# Altium schematic symbol library lib.SchLib: 480 symbols (part 3 of 6)
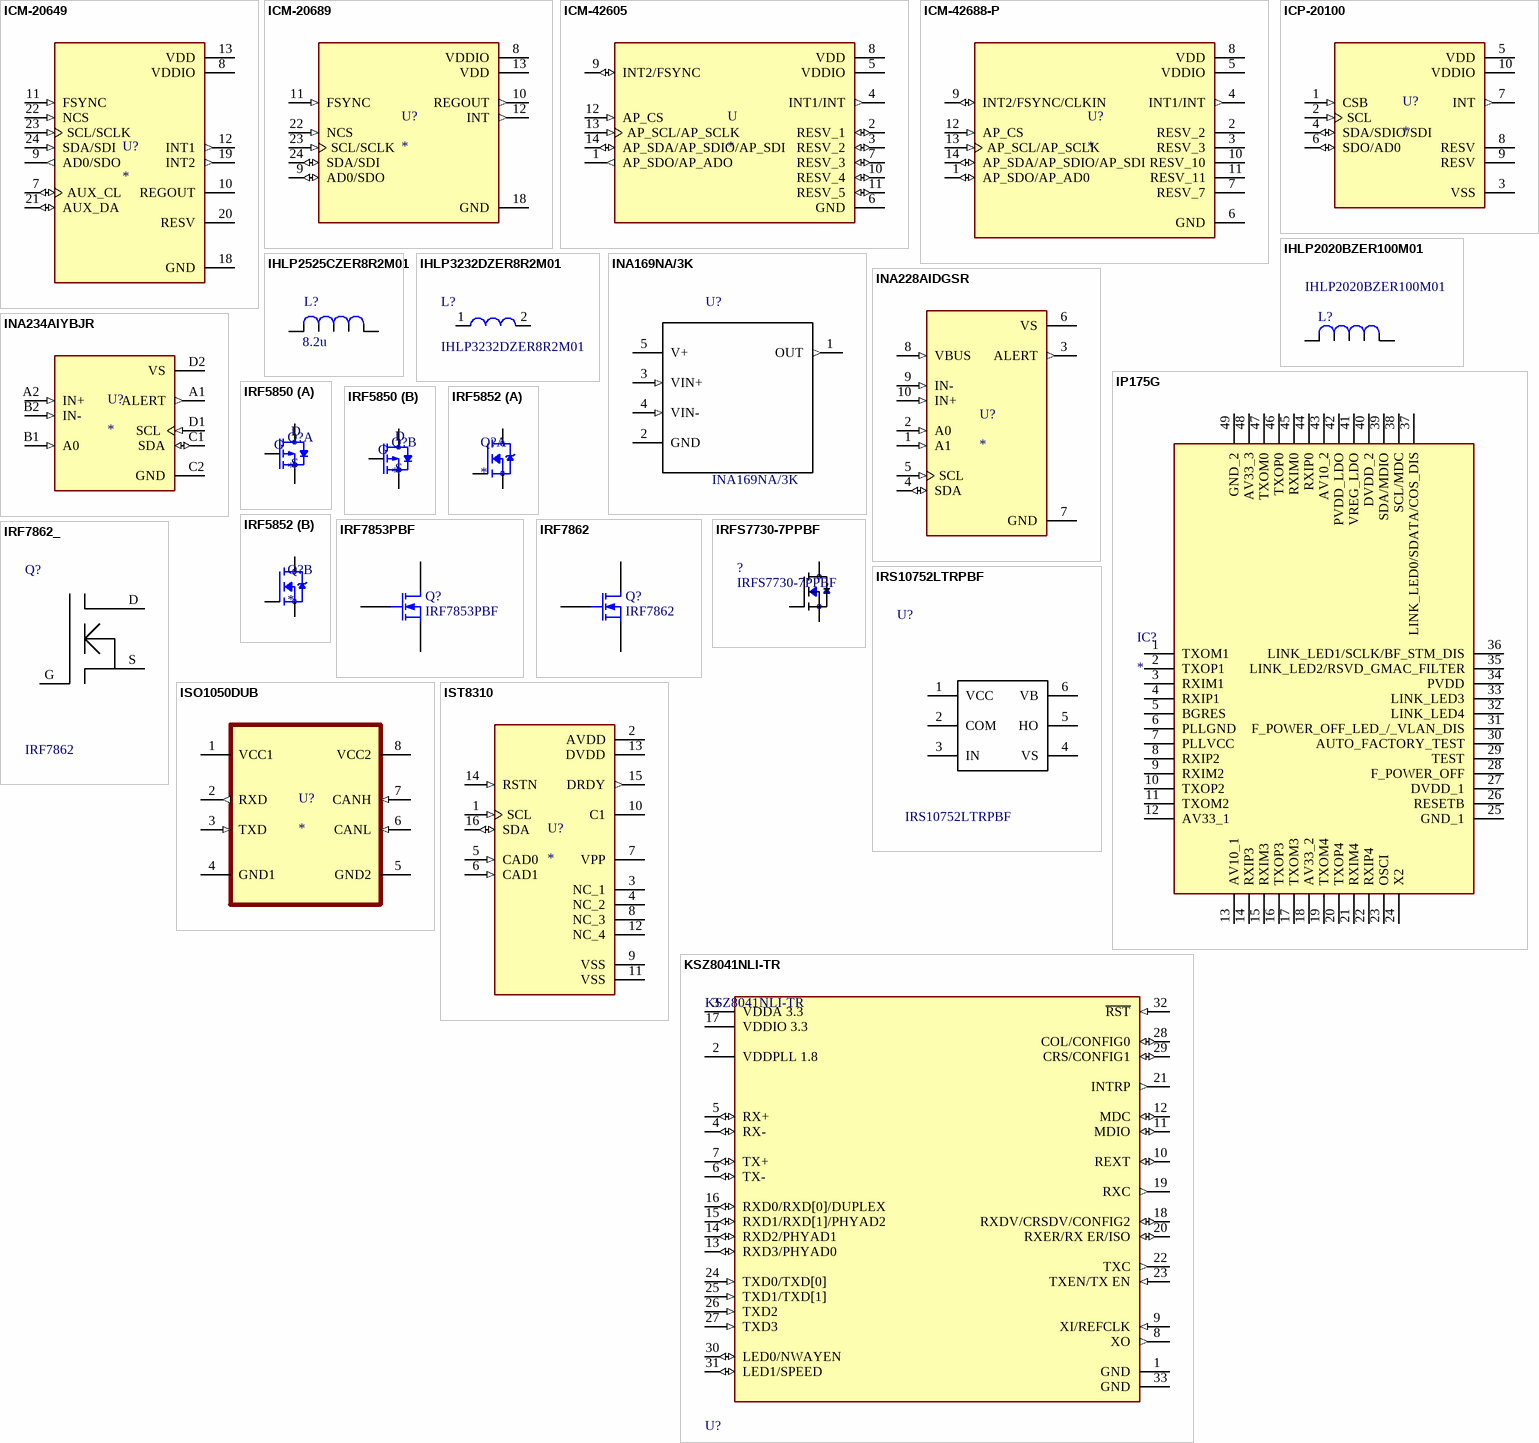
[diagram p22: symbols ICM-20649 to KSZ8041NLI-TR]

## ICM-20689
designator U?
Accelerometer, Gyroscope, Temperature, 6 Axis Sensor IÂ²C, SPI Output; MF: TDK InvenSense; MP: ICM-20689; Value: *; SnapEDA_Link: https://www.snapeda.com/parts/ICM-20689/TDK%20InvenSense/view-part/537724/?ref=snap; Package: QFN-24 InvenSense; HelpURL: https://static.chipdip.ru/lib/880/DOC011880561.pdf; ChipDip_Link: https://www.chipdip.ru/product1/8004216813
footprint QFN50P400X400X95-24N
pins: 8 VDDIO (power), 9 AD0/SDO (io), 10 REGOUT (out), 11 FSYNC (in), 12 INT (out), 13 VDD (power), 18 GND (power), 22 NCS (in), 23 SCL/SCLK (in), 24 SDA/SDI (io)

## ICM-42605
designator U
Accelerometer, Gyroscope, 6 Axis Sensor I²C, I3C, SPI Output; MP: ICM-42605; MF: TDK InvenSense; Value: *; Package: - TDK InvenSense; SnapEDA_Link: https://www.snapeda.com/parts/ICM-42605/TDK%20InvenSense/view-part/3226540/?ref=snap; HelpURL: https://static.chipdip.ru/lib/680/DOC011680342.pdf; ChipDip_Link: https://www.chipdip.ru/product/icm-42605-invensense
footprint PQFN50P300X250X97-14N
pins: 1 AP_SDO/AP_ADO (out), 2 RESV_1 (io), 3 RESV_2 (io), 4 INT1/INT (out), 5 VDDIO (power), 6 GND (power), 7 RESV_3 (io), 8 VDD (power), 9 INT2/FSYNC (io), 10 RESV_4 (io), 11 RESV_5 (io), 12 AP_CS (in), 13 AP_SCL/AP_SCLK (in), 14 AP_SDA/AP_SDIO/AP_SDI (io)

## ICM-42688-P
designator U?
Accelerometer, Gyroscope, 6 Axis Sensor Output; MP: ICM-42688-P; Package: None; Value: *; Availability: Unavailable; Price: None
footprint PQFN50P300X250X97-14N
pins: 1 AP_SDO/AP_AD0 (io), 2 RESV_2, 3 RESV_3, 4 INT1/INT (out), 5 VDDIO (power), 6 GND (power), 7 RESV_7, 8 VDD (power), 9 INT2/FSYNC/CLKIN (io), 10 RESV_10, 11 RESV_11, 12 AP_CS (in), 13 AP_SCL/AP_SCLK (in), 14 AP_SDA/AP_SDIO/AP_SDI (io)

## ICP-20100
designator U?
MF: TDK InvenSense; MP: ICP-20100; Package: None; Value: *; Availability: Not in stock; SnapEDA_Link: https://www.snapeda.com/parts/ICP-20100/TDK%20InvenSense/view-part/7331147/?ref=snap; Price: None; Check_prices: https://www.snapeda.com/parts/ICP-20100/TDK%20InvenSense/view-part/7331147/?ref=eda
footprint PQFN50P200X200X85-10N
pins: 1 CSB (in), 2 SCL (in), 3 VSS (power), 4 SDA/SDIO/SDI (io), 5 VDD (power), 6 SDO/AD0 (io), 7 INT (out), 8 RESV, 9 RESV, 10 VDDIO (power)

## IHLP2020BZER100M01
designator L?
10µH Shielded Molded Inductor 2.3A 199mOhm Max Nonstandard; MF: Vishay Dale; Type: SMD; SnapEDA_Link: https://www.snapeda.com/parts/IHLP2020BZER100M01/Vishay%20Dale/view-part/44808/?ref=snap; MP: IHLP2020BZER100M01; Value: *; Package: Nonstandard Vishay; HelpURL: http://www.vishay.com/docs/34253/ihlp-2020bz-01.pdf; ChipDip_Link: https://www.chipdip.ru/product/ihlp2020bzer100m11-inductor-ihlp-smd-2020-10
footprint IHLP
pins: 1, 2

## IHLP2525CZER8R2M01
designator L?  value 8.2u  (hidden comment: IHLP2525CZER8R2M01)
IHLP2525CZER8R2M01, 8.2uH 4A 20% Low Profile High Current SMT Inductor, Индуктивность; MF: Vishay Dale; Type: SMD; SnapEDA_Link: https://www.snapeda.com/parts/IHLP2525CZER100M01/Vishay%20Dale/view-part/?ref=snap; MP: IHLP2525CZER8R2M01; Package: Nonstandard Vishay
footprint *IND_IHLP_2525_CZ
pins: 1, 2

## IHLP3232DZER8R2M01
designator L?
Силовой Индуктор (SMD), 8.2 мкГн, 5.5 А, Экранированный, 10 А, Серия IHLP-3232DZ-01; Value: 8.2 uH; SnapEDA_Link: https://www.snapeda.com/parts/IHLP3232DZER3R3M51/Vishay%20Dale/view-part/1642474/?ref=snap; ChipDip_Link: https://www.chipdip.ru/product/ihlp3232dzer8r2m01; HelpURL: http://www.farnell.com/datasheets/2046006.pdf
footprint *INDM8681X400N
pins: 1, 2

## INA169NA/3K
designator U?
Current Monitor Regulator High-Side SOT-23-5; MF: Texas Instruments; Package: SOT-23-5 Texas Instruments; SnapEDA_Link: https://www.snapeda.com/parts/INA169NA/3K/Texas%20Instruments/view-part/449193/?ref=snap; MP: INA169NA/3K; Value: *; HelpURL: https://www.ti.com/lit/ds/symlink/ina169.pdf?ts=1652542931169&ref_url=https%253A%252F%252Fwww.google.com%252F
footprint *SOT95P280X145-5N
pins: 1 OUT (out), 2 GND, 3 VIN+ (in), 4 VIN- (in), 5 V+ (power)

## INA228AIDGSR
designator U?
85-V, 20-bit, ultra-precise, I2C output current/voltage/power/energy/charge monitor with alert; MF: Texas Instruments; MP: INA228AIDGSR; SnapEDA_Link: https://www.snapeda.com/parts/INA228AIDGSR/Texas+Instruments/view-part/?ref=snap; Package: VSSOP-10 Texas Instruments; Value: *; Check_prices: https://www.snapeda.com/parts/INA228AIDGSR/Texas+Instruments/view-part/?ref=eda; HelpURL: https://www.ti.com/lit/ds/symlink/ina228.pdf
footprint SOP50P490X110-10N
pins: 1 A1 (in), 2 A0 (in), 3 ALERT (out), 4 SDA (io), 5 SCL (in), 6 VS (power), 7 GND (power), 8 VBUS (in), 9 IN- (in), 10 IN+ (in)

## INA234AIYBJR
designator U?
28-V, 12-bit, IÂ²C output current/voltage/power monitor with alert in WCSP; MF: Texas Instruments; MP: INA234AIYBJR; SnapEDA_Link: https://www.snapeda.com/parts/INA234AIYBJR/Texas+Instruments/view-part/?ref=snap; Package: Package; Value: *; Check_prices: https://www.snapeda.com/parts/INA234AIYBJR/Texas+Instruments/view-part/?ref=eda; HelpURL: https://www.ti.com/lit/ds/symlink/ina234.pdf?ts=1771787119378
footprint IC_INA234AIYBJR
pins: A1 ALERT (out), A2 IN+ (in), B1 A0 (in), B2 IN- (in), C1 SDA (io), C2 GND (power), D1 SCL (in), D2 VS (power)

## IP175G
designator IC?
Integrated Circuit; Manufacturer_Name: IC+; Manufacturer_Part_Number: IP175G; Height: 0.9mm
footprint QFN40P600X600X90-49N-D
pins: 1 TXOM1, 2 TXOP1, 3 RXIM1, 4 RXIP1, 5 BGRES, 6 PLLGND, 7 PLLVCC, 8 RXIP2, 9 RXIM2, 10 TXOP2, 11 TXOM2, 12 AV33_1, 13 AV10_1, 14 RXIP3, 15 RXIM3, 16 TXOP3, 17 TXOM3, 18 AV33_2, 19 TXOM4, 20 TXOP4, 21 RXIM4, 22 RXIP4, 23 OSCI, 24 X2, 25 GND_1, 26 RESETB, 27 DVDD_1, 28 F_POWER_OFF, 29 TEST, 30 AUTO_FACTORY_TEST, 31 F_POWER_OFF_LED_/_VLAN_DIS, 32 LINK_LED4, 33 LINK_LED3, 34 PVDD, 35 LINK_LED2/RSVD_GMAC_FILTER, 36 LINK_LED1/SCLK/BF_STM_DIS, 37 LINK_LED0/SDATA/COS_DIS, 38 SCL/MDC, 39 SDA/MDIO, 40 DVDD_2, 41 VREG_LDO, 42 PVDD_LDO, 43 AV10_2, 44 RXIP0, 45 RXIM0, 46 TXOP0, 47 TXOM0, 48 AV33_3, 49 GND_2

## IRF5850
designator Q?
Mosfet Array 2 P-Channel (Dual) 20V 2.2A 960mW Surface Mount 6-TSOP; MF: Infineon; MP: IRF5850; Value: *; Check_prices: https://www.snapeda.com/parts/IRF5850/Infineon+Technologies/view-part/?ref=eda; Availability: In Stock; Package: TSOP-6 International Rectifier; SnapEDA_Link: https://www.snapeda.com/parts/IRF5850/Infineon+Technologies/view-part/?ref=snap; Purchase-URL: https://pricing.snapeda.com/search/part/IRF5850/?ref=eda; Price: None
footprint SOT23-6
part A pins: 1 G, 5 S, 6 D
part B pins: 2 S, 3 G, 4 D

## IRF5852
designator Q?
Mosfet Array 2 N-Channel _Dual_ 20V 2.7A 960mW Surface Mount 6-TSOP; MP: IRF5852; MF: Infineon; Value: *; SnapEDA_Link: https://www.snapeda.com/parts/IRF5852/Infineon%20Technologies/view-part/593138/?ref=snap; Package: TSOP-6 International Rectifier; ChipDip_Link: https://www.chipdip.ru/product/irf5852trpbf; HelpURL: https://static.chipdip.ru/lib/300/DOC000300076.pdf
footprint SOT23-6
part A pins: 1 G, 5 S, 6 D
part B pins: 2 S, 3 G, 4 D

## IRF7853PBF
designator Q?
IRF7853PBF, Транзистор, N-канал 100В 8.3А [SO-8]; ChipDip_Link: https://www.chipdip.ru/product/irf7853pbf; HelpURL: https://static.chipdip.ru/lib/300/DOC000300486.pdf
footprint *SO-08
simulation model NMOS (MOSFET-N)
pins: D, G, S

## IRF7862
designator Q?
N-Channel MOSFET
footprint *SO-08
simulation model NMOS (MOSFET-N)
pins: D, G, S

## IRF7862_
designator Q?, comment IRF7862
MF: Infineon Technologies; SnapEDA_Link: https://www.snapeda.com/parts/IRF7862/Infineon%20Technologies/view-part/?ref=snap; MP: IRF7862; Package: SO-8 Infineon Technologies; Value: *
footprint *SO-08
pins: D D1 (power), G (power), S S1 (power)

## IRFS7730-7PPBF
designator ?
IRFS7730-7PPBF, Транзистор, StrongIRFET, N-канал 75В 240А 2мОм [D2PAK-7]; SnapEDA_Link: https://www.snapeda.com/parts/BSS138/MICROSS/On%20Semiconductor/view-part/2773844/?ref=snap; MP: IRFS7730-7PPBF; MF: IRFS7730-7PPBF; Package: d2pak-7; Value: *; HelpURL: https://www.chipdip.ru/product/irfs7730-7ppbf
footprint *DPAK127P1524X483-8N
pins: D, G, S

## IRS10752LTRPBF
designator U?
Floating gate driver designed for bootstrap operation | Fully operational to +100 V | Fully operational to +600 V (IRS25752L) Fully operational to +200 V (IRS20752L) option available | Excellent dv/dt immunity | Excellent negative VS transient immunity | Wide VCC range | U VLO on low-side and high-side | Schmitt-trigger input with internal pull-down | Output in phase with input; MF: infineon; Package: SOT-23-6; SnapEDA_Link: https://www.snapeda.com/parts/IRS10752LTRPBF/Infineon%20Technologies/view-part/?ref=search&t=IRS10752; MP: IRS10752LTRPBF; Value: *; HelpURL: https://static.chipdip.ru/lib/142/DOC001142060.pdf; ChipDip_Link: https://www.chipdip.ru/product/irs10752ltrpbf
footprint *SOT95P275X110-6N
pins: 1 VCC (power), 2 COM, 3 IN (power), 4 VS (power), 5 HO, 6 VB (power)

## ISO1050DUB
designator U?
Isolated 5-V CAN transceiver 8-SOP -55 to 105; MP: ISO1050DUB; MF: Texas Instruments; Package: SOP-8 Texas Instruments; SnapEDA_Link: https://www.snapeda.com/parts/ISO1050DUB/Texas%20Instruments/view-part/281729/?ref=snap; Value: *; ChipDip_Link: https://www.chipdip.ru/product/iso1050dub; HelpURL: https://static.chipdip.ru/lib/143/DOC004143969.pdf
footprint SOP254P1040X485-8N
pins: 1 VCC1 (power), 2 RXD (out), 3 TXD (in), 4 GND1 (power), 5 GND2 (power), 6 CANL (in), 7 CANH (in), 8 VCC2 (power)

## IST8310
designator U?
3-axis digital magnetometer with 16-pin LGA package; MF: Isentek; MP: IST8310; SnapEDA_Link: https://www.snapeda.com/parts/IST8310/Isentek/view-part/3595432/?ref=snap; Availability: Unavailable; Price: None; Value: *; Check_prices: https://www.snapeda.com/parts/IST8310/Isentek/view-part/3595432/?ref=eda; Package: Package
footprint PQFN50P300X300X110-16N
pins: 1 SCL (in), 2 AVDD (power), 3 NC_1, 4 NC_2, 5 CAD0 (in), 6 CAD1 (in), 7 VPP, 8 NC_3, 9 VSS (power), 10 C1, 11 VSS (power), 12 NC_4, 13 DVDD (power), 14 RSTN (in), 15 DRDY (out), 16 SDA (io)

## KSZ8041NLI-TR
designator U?
IC TRANSCEIVER FULL 1/1 32MLF; Simplex/Duplex: Full Duplex; Data Rate: 100Mbps; Supply Voltage-Nom: 3.465V; Operating Supply Voltage: 3.3V; Number of Channels: 1; Max Supply Current: 58.3mA; Min Supply Voltage: 3.135V; Supply Current: 53mA; Series: -; Min Operating Temperature: -40°C; Width: 5mm; Height: 0.85mm; Mount: Surface Mount; Case/Package: QFN; REACH SVHC: No SVHC; Length: 5mm; Radiation Hardening: No; Number of Functions: 1; Number of Transceivers: 1; Packaging: Tape and Reel; Max Supply Voltage: 3.465V; Package Quantity: 1000; RoHS Compliant: Yes; Max Operating Temperature: 85°C; Nominal Supply Current: 53mA; Number of Pins: 32
footprint FP-QFN55-32LD-PL-1-IPC_A
pins: 1 GND (power), 2 VDDPLL 1.8 (power), 3 VDDA 3.3 (power), 4 RX- (io), 5 RX+ (io), 6 TX- (io), 7 TX+ (io), 8 XO (out), 9 XI/REFCLK (in), 10 REXT (io), 11 MDIO (io), 12 MDC (io), 13 RXD3/PHYAD0 (io), 14 RXD2/PHYAD1 (io), 15 RXD1/RXD[1]/PHYAD2 (io), 16 RXD0/RXD[0]/DUPLEX (io), 17 VDDIO 3.3 (power), 18 RXDV/CRSDV/CONFIG2 (io), 19 RXC (out), 20 RXER/RX ER/ISO (io), 21 INTRP (out), 22 TXC (out), 23 TXEN/TX EN (in), 24 TXD0/TXD[0] (in), 25 TXD1/TXD[1] (in), 26 TXD2 (in), 27 TXD3 (in), 28 COL/CONFIG0 (io), 29 CRS/CONFIG1 (io), 30 LED0/NWAYEN (io), 31 LED1/SPEED (io), 32 ~{RST} (in), 33 GND (power)

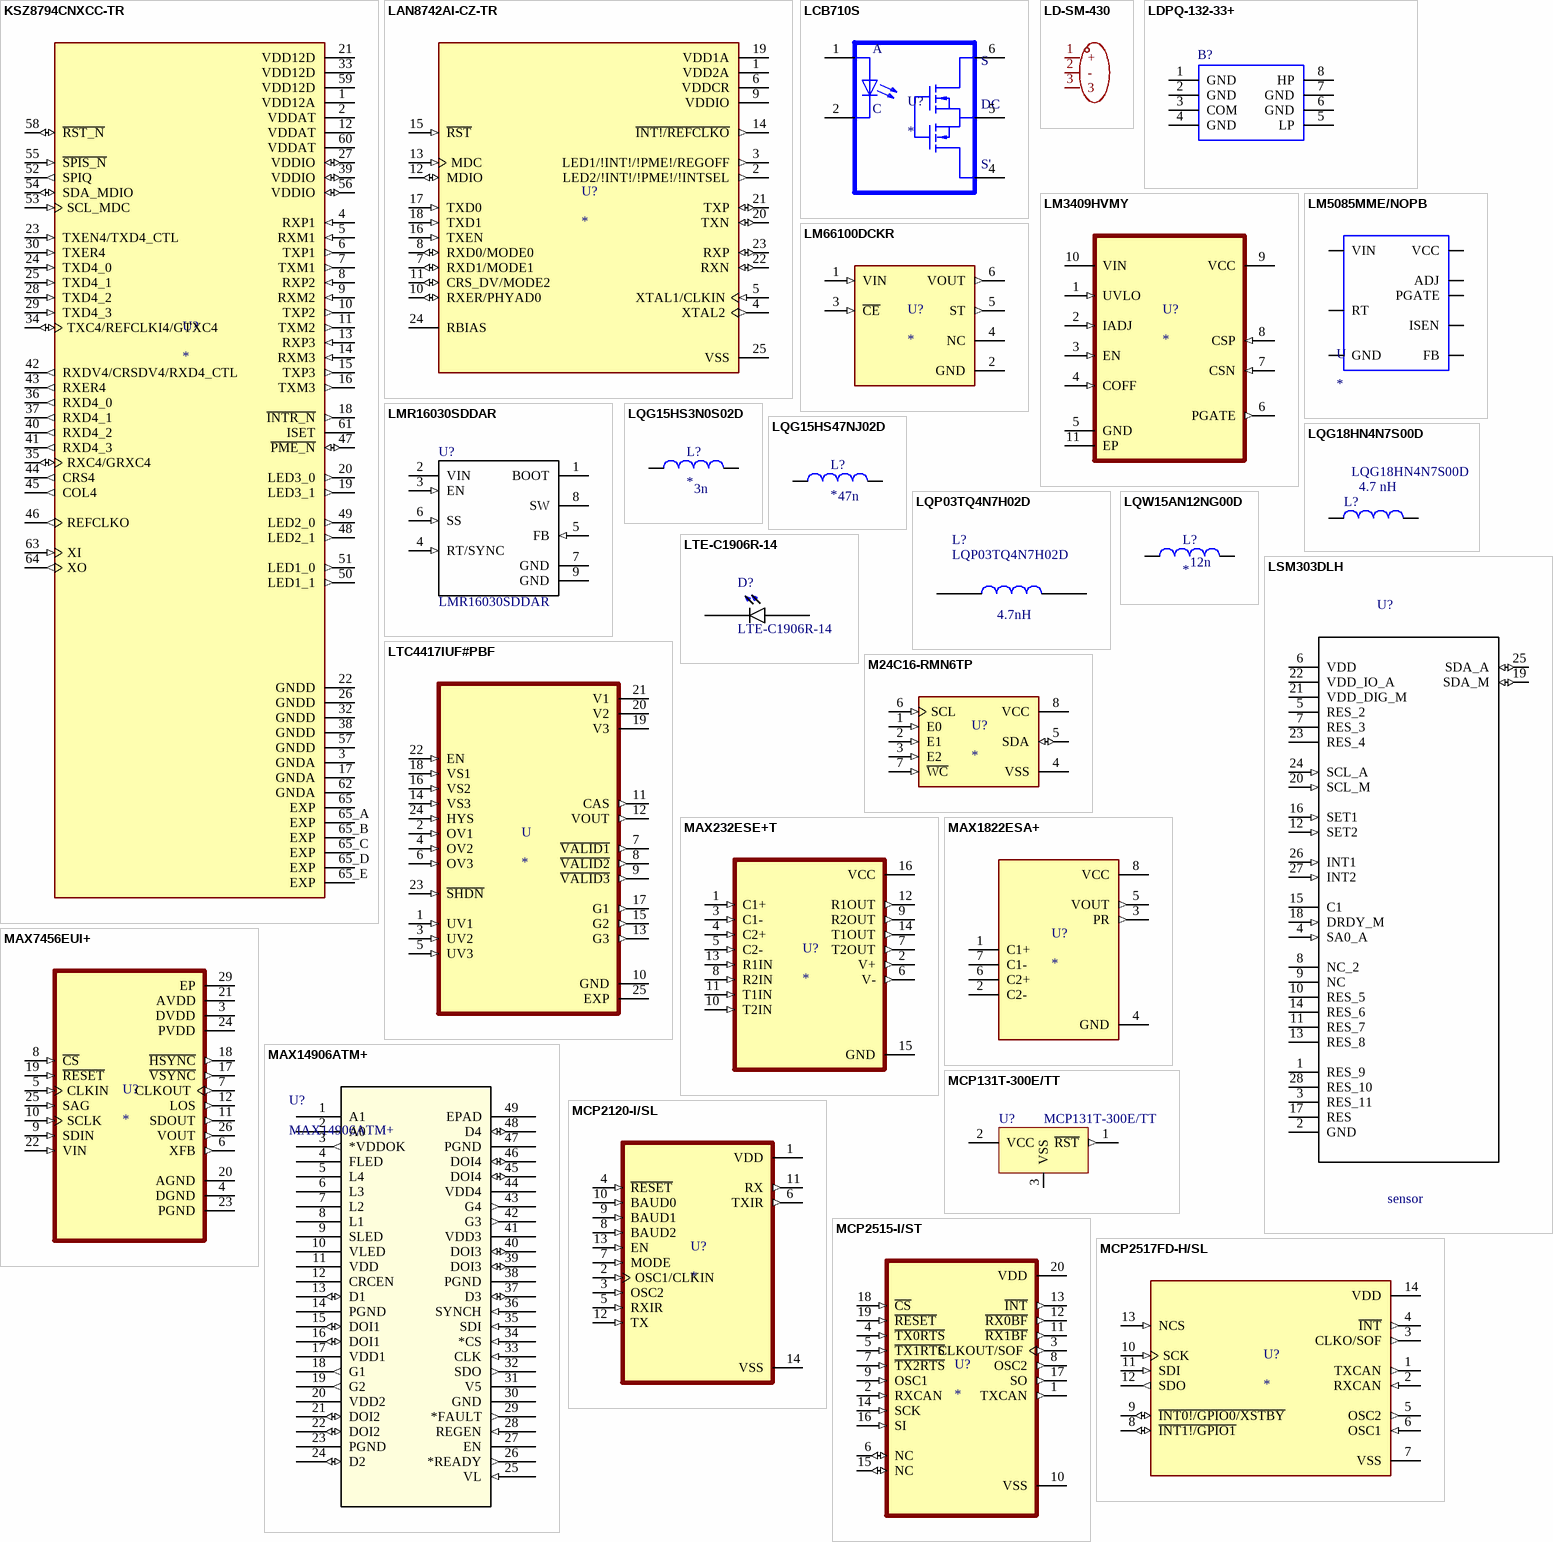
[diagram p8: symbols KSZ8794CNXCC-TR to MCP2517FD-H/SL]

## KSZ8794CNXCC-TR
designator U?
Ethernet Controller 10/100 Base-T/TX PHY MII, RMII Interface 64-QFN _8x8_; MF: Microchip; MP: KSZ8794CNXCC-TR; Package: QFN-64 Microchip; Digi-Key_Purchase_URL: https://www.digikey.com/product-detail/en/microchip-technology/KSZ8794CNXCC-TR/KSZ8794CNXCC-CT-ND/9923662?utm_source=snapeda&utm_medium=aggregator&utm_campaign=symbol; Value: *; SnapEDA_Link: https://www.snapeda.com/parts/KSZ8794CNXCC-TR/Microchip/view-part/901120/?ref=snap; Digi-Key_Part_Number: KSZ8794CNXCC-CT-ND
footprint QFN40P800X800X90-65N
pins: 1 VDD12A (power), 2 VDDAT (power), 3 GNDA (power), 4 RXP1 (in), 5 RXM1 (in), 6 TXP1 (out), 7 TXM1 (out), 8 RXP2 (in), 9 RXM2 (in), 10 TXP2 (out), 11 TXM2 (out), 12 VDDAT (power), 13 RXP3 (in), 14 RXM3 (in), 15 TXP3 (out), 16 TXM3 (out), 17 GNDA (power), 18 ~{INTR_N} (out), 19 LED3_1 (out), 20 LED3_0 (out), 21 VDD12D (power), 22 GNDD (power), 23 TXEN4/TXD4_CTL (in), 24 TXD4_0 (in), 25 TXD4_1 (in), 26 GNDD (power), 27 VDDIO (io), 28 TXD4_2 (in), 29 TXD4_3 (in), 30 TXER4 (in), 32 GNDD (power), 33 VDD12D (power), 34 TXC4/REFCLKI4/GTXC4 (io), 35 RXC4/GRXC4 (io), 36 RXD4_0 (out), 37 RXD4_1 (out), 38 GNDD (power), 39 VDDIO (io), 40 RXD4_2 (out), 41 RXD4_3 (out), 42 RXDV4/CRSDV4/RXD4_CTL (out), 43 RXER4 (out), 44 CRS4 (out), 45 COL4 (out), 46 REFCLKO (out), 47 ~{PME_N} (io), 48 LED2_1 (out), 49 LED2_0 (out), 50 LED1_1 (out), 51 LED1_0 (out), 52 SPIQ (out), 53 SCL_MDC (in), 54 SDA_MDIO (io), 55 ~{SPIS_N} (in), 56 VDDIO (io), 57 GNDD (power), 58 ~{RST_N} (io), 59 VDD12D (power), 60 VDDAT (power), 61 ISET, 62 GNDA (power), 63 XI (in), 64 XO (out), 65 EXP (power), 65_A EXP (power), 65_B EXP (power), 65_C EXP (power), 65_D EXP (power), 65_E EXP (power)

## LAN8742AI-CZ-TR
designator U?
1/1 Transceiver Full Ethernet 24-SQFN (4x4); MF: Microchip; MP: LAN8742AI-CZ-TR; SnapEDA_Link: https://www.snapeda.com/parts/LAN8742AI-CZ-TR/Microchip/view-part/591729/?ref=snap; Price: None; Availability: In Stock; Value: *; Check_prices: https://www.snapeda.com/parts/LAN8742AI-CZ-TR/Microchip/view-part/591729/?ref=eda; Package: VFQFN-24 Microchip
footprint QFN50P400X400X100-25N
pins: 1 VDD2A (power), 2 LED2/!INT!/!PME!/!INTSEL (out), 3 LED1/!INT!/!PME!/REGOFF (out), 4 XTAL2 (out), 5 XTAL1/CLKIN (in), 6 VDDCR (power), 7 RXD1/MODE1 (io), 8 RXD0/MODE0 (io), 9 VDDIO (power), 10 RXER/PHYAD0 (io), 11 CRS_DV/MODE2 (io), 12 MDIO (io), 13 MDC (in), 14 ~{INT!/REFCLKO} (out), 15 ~{RST} (in), 16 TXEN (in), 17 TXD0 (in), 18 TXD1 (in), 19 VDD1A (power), 20 TXN (io), 21 TXP (io), 22 RXN (io), 23 RXP (io), 24 RBIAS, 25 VSS (power)

## LCB710S
designator U?
Solid State, 60V, 1A Single-Pole, Normally Closed Relay; MP: LCB710S; MF: Littelfuse/IXYS; Digi-Key_Part_Number: VO14642AABCT-ND; Value: *; SnapEDA_Link: https://www.snapeda.com/parts/VO14642AABTR/Vishay%20Semiconductor%20Opto%20Division/view-part/226427/?ref=snap; Digi-Key_Purchase_URL: https://www.digikey.com/product-detail/en/vishay-semiconductor-opto-division/VO14642AABTR/VO14642AABCT-ND/4743823?utm_source=snapeda&utm_medium=aggregator&utm_campaign=symbol; Package: SMD-6 Vishay; HelpURL: https://www.lcsc.com/datasheet/C2152209.pdf
footprint SOIC254P1005X390-6N
pins: 1 A, 2 C, 4 S', 5 DC, 6 S

## LD-SM-430
designator M??  (value not drawn)
MF: LEADER(立得); Add into BOM: yes; Voltage Rating: 2.7V; Current Rating: 85mA; Rated Speed: 14000±2500rpm; Sense Of Rotation: CW；CCW; MP: LD-SM-430; Device: LD-SM-430; Manufacturer Part: LD-SM-430; Supplier Footprint: -; JLCPCB Part Class: Extended Part; Datasheet: https://item.szlcsc.com/datasheet/LD-SM-430/43080312.html; Supplier: LCSC; Convert to PCB: yes; Type: Flat Vibration Motor; Operating Temperature: -20℃~+60℃; Mounting Type: SMD; Diameter (φD): -; Length: 4mm; Width: 3mm; Height: 11mm; HelpURL: https://www.lcsc.com/product-detail/C41348533.html?s_z=n_LD-SM-430
footprint SMD_LD-SM-430-1
pins: 1 +, 2 -, 3

## LDPQ-132-33+
designator B?
Signal Conditioning LTCC Diplexer, DC-1280/1550-3000 MHz, 50O; MF: Mini-Circuits; Geometry.Height: 0.99mm; Mouser Part Number: 139-LDPQ-132-33+; Mouser Price/Stock: https://www.mouser.co.uk/ProductDetail/Mini-Circuits/LDPQ-132-33%2b?qs=sPbYRqrBIVklzPkP44UYCQ%3D%3D; MP: LDPQ-132-33+; Datasheet Link: https://www.minicircuits.com/pdfs/LDPQ-132-33+.pdf; HelpURL: https://www.minicircuits.com/pdfs/LDPQ-132-33+.pdf
footprint LDPQ13233
pins: 1 GND, 2 GND, 3 COM, 4 GND, 5 LP, 6 GND, 7 GND, 8 HP

## LM3409HVMY
designator U?
75-V PFET buck controller for high power LED drivers; MF: Texas Instruments; MP: LM3409HVMY/NOPB; SnapEDA_Link: https://www.snapeda.com/parts/LM3409HVMY/NOPB/Texas+Instruments/view-part/?ref=snap; Package: HVSSOP-10 Texas Instruments; Value: *; Check_prices: https://www.snapeda.com/parts/LM3409HVMY/NOPB/Texas+Instruments/view-part/?ref=eda; HelpURL: https://www.lcsc.com/datasheet/C11157.pdf
footprint SOP50P490X109-11N
pins: 1 UVLO (in), 2 IADJ (in), 3 EN (in), 4 COFF (in), 5 GND, 6 PGATE (out), 7 CSN (in), 8 CSP (in), 9 VCC (power), 10 VIN (power), 11 EP

## LM5085MME/NOPB
designator U
4.5-75V Wide Vin, Constant On-Time Non-Synchronous PFET Buck Controller 8-VSSOP -40 to 125; MF: Texas Instruments; MP: LM5085MME/NOPB; Package: MSOP-8 Texas Instruments; Value: *; SnapEDA_Link: https://www.snapeda.com/parts/LM5085MME/NOPB/Texas%20Instruments/view-part/29752/?ref=snap
footprint VSSOP8
pins: P$1 ADJ (io), P$2 RT (io), P$3 FB (io), P$4 GND (io), P$5 ISEN (io), P$6 PGATE (io), P$7 VCC (io), P$8 VIN (io)

## LM66100DCKR
designator U?
1.5-V to 5.5-V, 1.5-A, 0.5-ÂµA IQ ideal diode with integrated FET; MF: Texas Instruments; MP: LM66100DCKR; SnapEDA_Link: https://www.snapeda.com/parts/LM66100DCKR/Texas+Instruments/view-part/?ref=snap; Package: SOT-SC70-6 Texas Instruments; Value: *; Check_prices: https://www.snapeda.com/parts/LM66100DCKR/Texas+Instruments/view-part/?ref=eda
footprint SOT65P210X110-6N
pins: 1 VIN (in), 2 GND (power), 3 ~{CE} (in), 4 NC, 5 ST (out), 6 VOUT (out)

## LMR16030SDDAR
designator U?
LMR16030SDDAR, Conv DC-DC 4.3V to 60V Step Down Single-Out 1V to 50V 3A Automotive 8-Pin HSOP EP T/R; MF: Texas Instruments; SnapEDA_Link: https://www.snapeda.com/parts/TPS54560DDA/Texas%20Instruments/view-part/?ref=snap; MP: LMR16030SDDAR; Package: PowerSOIC-8 Texas Instruments; Value: *; Type: SMD; ChipDip_Link: https://www.chipdip.ru/product1/8003448566; HelpURL: https://www.ti.com/lit/ds/symlink/lmr16030.pdf
footprint *SOIC127P600X170-9N
pins: 1 BOOT (power), 2 VIN (power), 3 EN (in), 4 RT/SYNC (in), 5 FB (in), 6 SS (in), 7 GND (power), 8 SW (power), 9 GND (power)

## LQG15HS3N0S02D
designator L?  value 3n
Inductor with Inductance: 3nH Tol. +/-0.3nH, Package: 0402 _1005_; MP: LQG15HS3N0S02D; MF: Murata; SnapEDA_Link: https://www.snapeda.com/parts/LQG15HS3N0S02D/Murata%20Electronics%20North%20America/view-part/1501807/?ref=snap; Price: None; Package: 1005 Murata; Availability: Unavailable
footprint INDC1005X55N
pins: 1, 2

## LQG15HS47NJ02D
designator L?  value 47n
Inductor RF Chip Unshielded Multi-Layer 47nH 5% 100MHz 8Q-Factor Ceramic 200mA 720mOhm DCR 0402 T/R; MP: LQG15HS47NJ02D; Package: None; Price: None; Availability: Unavailable
footprint INDC1005X55N
pins: 1, 2

## LQG18HN4N7S00D
designator L?  value 4.7 nH
Ind RF Chip Multi-Layer 4.7nH 0.3nH 100MHz 12Q-Factor Air 450mA 0603 Paper T/R; MF: {'manufacturer': u'Murata'}; Type: SMD; Package: 0603; MP: LQG18HN4N7S00D
footprint INDC1608X95N
pins: 1, 2

## LQP03TQ4N7H02D
designator L?  value 4.7nH
0402; SnapEDA_Link: https://www.snapeda.com/parts/LQP03TQ4N7H02D/Murata/view-part/1507840/?ref=snap; ChipDip_Link: https://www.chipdip.ru/product/lqp03tq4n7h02d; HelpURL: http://www.farnell.com/datasheets/2616640.pdf
footprint *IND_LQP03TQ4N7H02D
pins: 1, 2

## LQW15AN12NG00D
designator L?  value 12n
Inductor with Inductance: 12nH Tol. +/-2%, Package: 0402 (1005); MF: Murata; MP: LQW15AN12NG00D; Price: None; Package: 1006 Murata; SnapEDA_Link: https://www.snapeda.com/parts/LQW15AN12NG00D/Murata%20Electronics%20North%20America/view-part/1499497/?ref=snap; Mouser-Purchase-URL: https://snapeda.com/shop?store=Mouser&id=1499497; Availability: Unavailable; DigiKey-Purchase-URL: https://snapeda.com/shop?store=DigiKey&id=1499497
footprint INDC1006X60N
pins: 1, 2

## LSM303DLH
designator U?, comment sensor
3-axis accelerometer and 3-axis magnetometer; SnapEDA_Link: https://www.snapeda.com/parts/LSM303DLH/STMicroelectronics/view-part/499714/?ref=snap; Value: *; HelpURL: https://www.sparkfun.com/datasheets/Sensors/Magneto/LSM303%20Datasheet.pdf; ChipDip_Link: https://www.chipdip.ru/product0/8565509100
footprint *LGA28R55P7X7_500X500X100
pins: 1 RES_9, 2 GND, 3 RES_11, 4 SA0_A (in), 5 RES_2 (power), 6 VDD (power), 7 RES_3 (power), 8 NC_2, 9 NC, 10 RES_5, 11 RES_7, 12 SET2 (in), 13 RES_8, 14 RES_6, 15 C1, 16 SET1 (in), 17 RES, 18 DRDY_M (in), 19 SDA_M (io), 20 SCL_M (in), 21 VDD_DIG_M (power), 22 VDD_IO_A (power), 23 RES_4 (power), 24 SCL_A (in), 25 SDA_A (io), 26 INT1 (in), 27 INT2 (in), 28 RES_10

## LTC4417IUF#PBF
designator U
Controller 2.5V to 36V 24-Pin QFN EP Tube; MF: Analog Devices; MP: LTC4417IUF#PBF; Package: QFN -24 Analog Devices; Price: None; Value: *; SnapEDA_Link: https://www.snapeda.com/parts/LTC4417IUF%23PBF/Analog%20Devices/view-part/4333221/?ref=snap; Availability: Unavailable
footprint QFN50P400X400X80-25N
pins: 1 UV1 (in), 2 OV1 (in), 3 UV2 (in), 4 OV2 (in), 5 UV3 (in), 6 OV3 (in), 7 ~{VALID1} (out), 8 ~{VALID2} (out), 9 ~{VALID3} (out), 10 GND (power), 11 CAS (out), 12 VOUT (out), 13 G3 (out), 14 VS3 (in), 15 G2 (out), 16 VS2 (in), 17 G1 (out), 18 VS1 (in), 19 V3 (power), 20 V2 (power), 21 V1 (power), 22 EN (in), 23 ~{SHDN} (in), 24 HYS (in), 25 EXP (power)

## LTE-C1906R-14
designator D?
LED IrLED Chip LED 2-Pin SMD T/R; MF: Lite-On Inc.; Package: 0603 Lite-On; MP: LTE-C1906R-14; SnapEDA_Link: https://www.snapeda.com/parts/LTE-C1906R-14/Lite-On%20Inc./view-part/?ref=snap; Value: *
footprint *LEDM1608X80_LTE-C1906R-14(Primary)
pins: A, C

## M24C16-RMN6TP
designator U?
EEPROM Memory IC 16Kb (2K x 8) IÂ²C 400 kHz 900 ns 8-SOIC; MF: STMicroelectronics; MP: M24C16-RMN6TP; SnapEDA_Link: https://www.snapeda.com/parts/M24C16-RMN6TP/STMicroelectronics/view-part/?ref=snap; Package: SO-8 STMicroelectronics; Value: *; Check_prices: https://www.snapeda.com/parts/M24C16-RMN6TP/STMicroelectronics/view-part/?ref=eda
footprint SOIC127P600X175-8N
pins: 1 E0 (in), 2 E1 (in), 3 E2 (in), 4 VSS (power), 5 SDA (io), 6 SCL (in), 7 ~{WC} (in), 8 VCC (power)

## MAX232ESE+T
designator U?
Dual Transmitter/Receiver RS-232 16-Pin SOIC N T/R; MF: Maxim Integrated Products; MP: MAX232ESE+T; SnapEDA_Link: https://www.snapeda.com/parts/MAX232ESE+T/Maxim+Integrated/view-part/?ref=snap; Package: None; Value: *; Check_prices: https://www.snapeda.com/parts/MAX232ESE+T/Maxim+Integrated/view-part/?ref=eda; HelpURL: https://www.lcsc.com/datasheet/lcsc_datasheet_2410121841_Analog-Devices-Inc--Maxim-Integrated-MAX232ESE-T_C26860.pdf
footprint SOIC127P600X175-16N
pins: 1 C1+ (in), 2 V+ (out), 3 C1- (in), 4 C2+ (in), 5 C2- (in), 6 V- (out), 7 T2OUT (out), 8 R2IN (in), 9 R2OUT (out), 10 T2IN (in), 11 T1IN (in), 12 R1OUT (out), 13 R1IN (in), 14 T1OUT (out), 15 GND (power), 16 VCC (power)

## MAX1822ESA+
designator U?
MP: MAX1822ESA+; Package: None; Value: *
footprint SOIC127P600X175-8N
pins: 1 C1+, 2 C2-, 3 PR (out), 4 GND (power), 5 VOUT (out), 6 C2+, 7 C1-, 8 VCC (power)

## MAX7456EUI+
designator U?
Video - IC Serial, SPI NTSC, PAL 28-TSSOP-EP Package; MF: Analog Devices; MP: MAX7456EUI; SnapEDA_Link: https://www.snapeda.com/parts/MAX7456EUI/Analog+Devices/view-part/?ref=snap; Package: TSSOP-28 Maxim; Value: *; Check_prices: https://www.snapeda.com/parts/MAX7456EUI/Analog+Devices/view-part/?ref=eda
footprint SOP65P637X110-28N
pins: 3 DVDD (power), 4 DGND (power), 5 CLKIN (in), 6 XFB (out), 7 CLKOUT (out), 8 ~{CS} (in), 9 SDIN (in), 10 SCLK (in), 11 SDOUT (out), 12 LOS (out), 17 ~{VSYNC} (out), 18 ~{HSYNC} (out), 19 ~{RESET} (in), 20 AGND (power), 21 AVDD (power), 22 VIN (in), 23 PGND (power), 24 PVDD (power), 25 SAG (in), 26 VOUT (out), 29 EP (power)

## MAX14906ATM+
designator U?
Quad-Channel Industrial Digital Output, Digital Input; MF: Analog Devices Inc; Copyright: Copyright (C) 2025 Ultra Librarian. All rights reserved.; MP: MAX14906ATM+; RefDes: RefDes; Type: Type; HelpURL: https://www.analog.com/media/en/technical-documentation/data-sheets/max14906.pdf
footprint 21-0144H_T4877-6
pins: 1 A1, 2 A0, 3 *VDDOK (out), 4 FLED, 5 L4, 6 L3, 7 L2, 8 L1, 9 SLED, 10 VLED, 11 VDD (power), 12 CRCEN, 13 D1 (io), 14 PGND (power), 15 DOI1 (io), 16 DOI1 (io), 17 VDD1 (power), 18 G1 (out), 19 G2 (out), 20 VDD2 (power), 21 DOI2 (io), 22 DOI2 (io), 23 PGND (power), 24 D2 (io), 25 VL (in), 26 *READY (out), 27 EN, 28 REGEN (in), 29 *FAULT (out), 30 GND (power), 31 V5 (power), 32 SDO (out), 33 CLK (in), 34 *CS (in), 35 SDI (in), 36 SYNCH (in), 37 D3 (io), 38 PGND (power), 39 DOI3 (io), 40 DOI3 (io), 41 VDD3 (power), 42 G3 (out), 43 G4 (out), 44 VDD4 (power), 45 DOI4 (io), 46 DOI4 (io), 47 PGND (power), 48 D4 (io), 49 EPAD (power)

## MCP131T-300E/TT
designator U?
Micropower Voltage Supervisors 1В-5.5В, 2.93В, 120мс; ChipDip_Link: https://www.chipdip.ru/product/mcp131t-300e-tt; HelpURL: https://static.chipdip.ru/lib/691/DOC011691612.pdf
footprint SOT-323 (Footprint not found)
pins: 1 ~{RST} (out), 2 VCC (power), 3 VSS (power)

## MCP2120-I/SL
designator U?
Infrared Encoder/Decoder IC 14-SOIC; MP: MCP2120-I/SL; MF: Microchip; Value: *; SnapEDA_Link: https://www.snapeda.com/parts/MCP2120-I/SL/Microchip/view-part/310258/?ref=snap; Package: SOIC-14 Microchip; HelpURL: http://ww1.microchip.com/downloads/en/devicedoc/21618b.pdf
footprint SOIC127P600X175-14N
pins: 1 VDD (power), 2 OSC1/CLKIN (in), 3 OSC2 (in), 4 ~{RESET} (in), 5 RXIR (in), 6 TXIR (out), 7 MODE (in), 8 BAUD2 (in), 9 BAUD1 (in), 10 BAUD0 (in), 11 RX (out), 12 TX (in), 13 EN (in), 14 VSS (power)

## MCP2515-I/ST
designator U?
CANbus Controller CAN 2.0 SPI Interface 20-TSSOP; MF: Microchip; MP: MCP2515-I/ST; Price: None; Package: TSSOP-20 Microchip; Availability: Unavailable; SnapEDA_Link: https://www.snapeda.com/parts/MCP2515-I/ST/Microchip/view-part/39880/?ref=snap; Value: *; HelpURL: https://static.chipdip.ru/lib/199/DOC011199538.pdf
footprint SOP65P640X110-20N
pins: 1 TXCAN (out), 2 RXCAN (in), 3 CLKOUT/SOF (out), 4 ~{TX0RTS} (in), 5 ~{TX1RTS} (in), 6 NC (io), 7 ~{TX2RTS} (in), 8 OSC2 (out), 9 OSC1 (in), 10 VSS (power), 11 ~{RX1BF} (out), 12 ~{RX0BF} (out), 13 ~{INT} (out), 14 SCK (in), 15 NC (io), 16 SI (in), 17 SO (out), 18 ~{CS} (in), 19 ~{RESET} (in), 20 VDD (power)

## MCP2517FD-H/SL
designator U?
CANbus Controller CAN 2.0 SPI Interface 14-SOIC; MF: Microchip; MP: MCP2517FD-H/SL; Package: SO-14 Microchip; Price: None; Value: *; Availability: Unavailable; SnapEDA_Link: https://www.snapeda.com/parts/MCP2517FD-H/SL/Microchip/view-part/2720046/?ref=snap; HelpURL: https://ww1.microchip.com/downloads/en/DeviceDoc/MCP2517FD-External-CAN-FD-Controller-with-SPI-Interface-20005688B.pdf
footprint SOIC127P600X175-14N
pins: 1 TXCAN (out), 2 RXCAN (in), 3 CLKO/SOF (out), 4 ~{INT} (out), 5 OSC2 (out), 6 OSC1 (in), 7 VSS (power), 8 ~{INT1!/GPIO1} (io), 9 ~{INT0!/GPIO0/XSTBY} (io), 10 SCK (in), 11 SDI (in), 12 SDO (out), 13 NCS (in), 14 VDD (power)

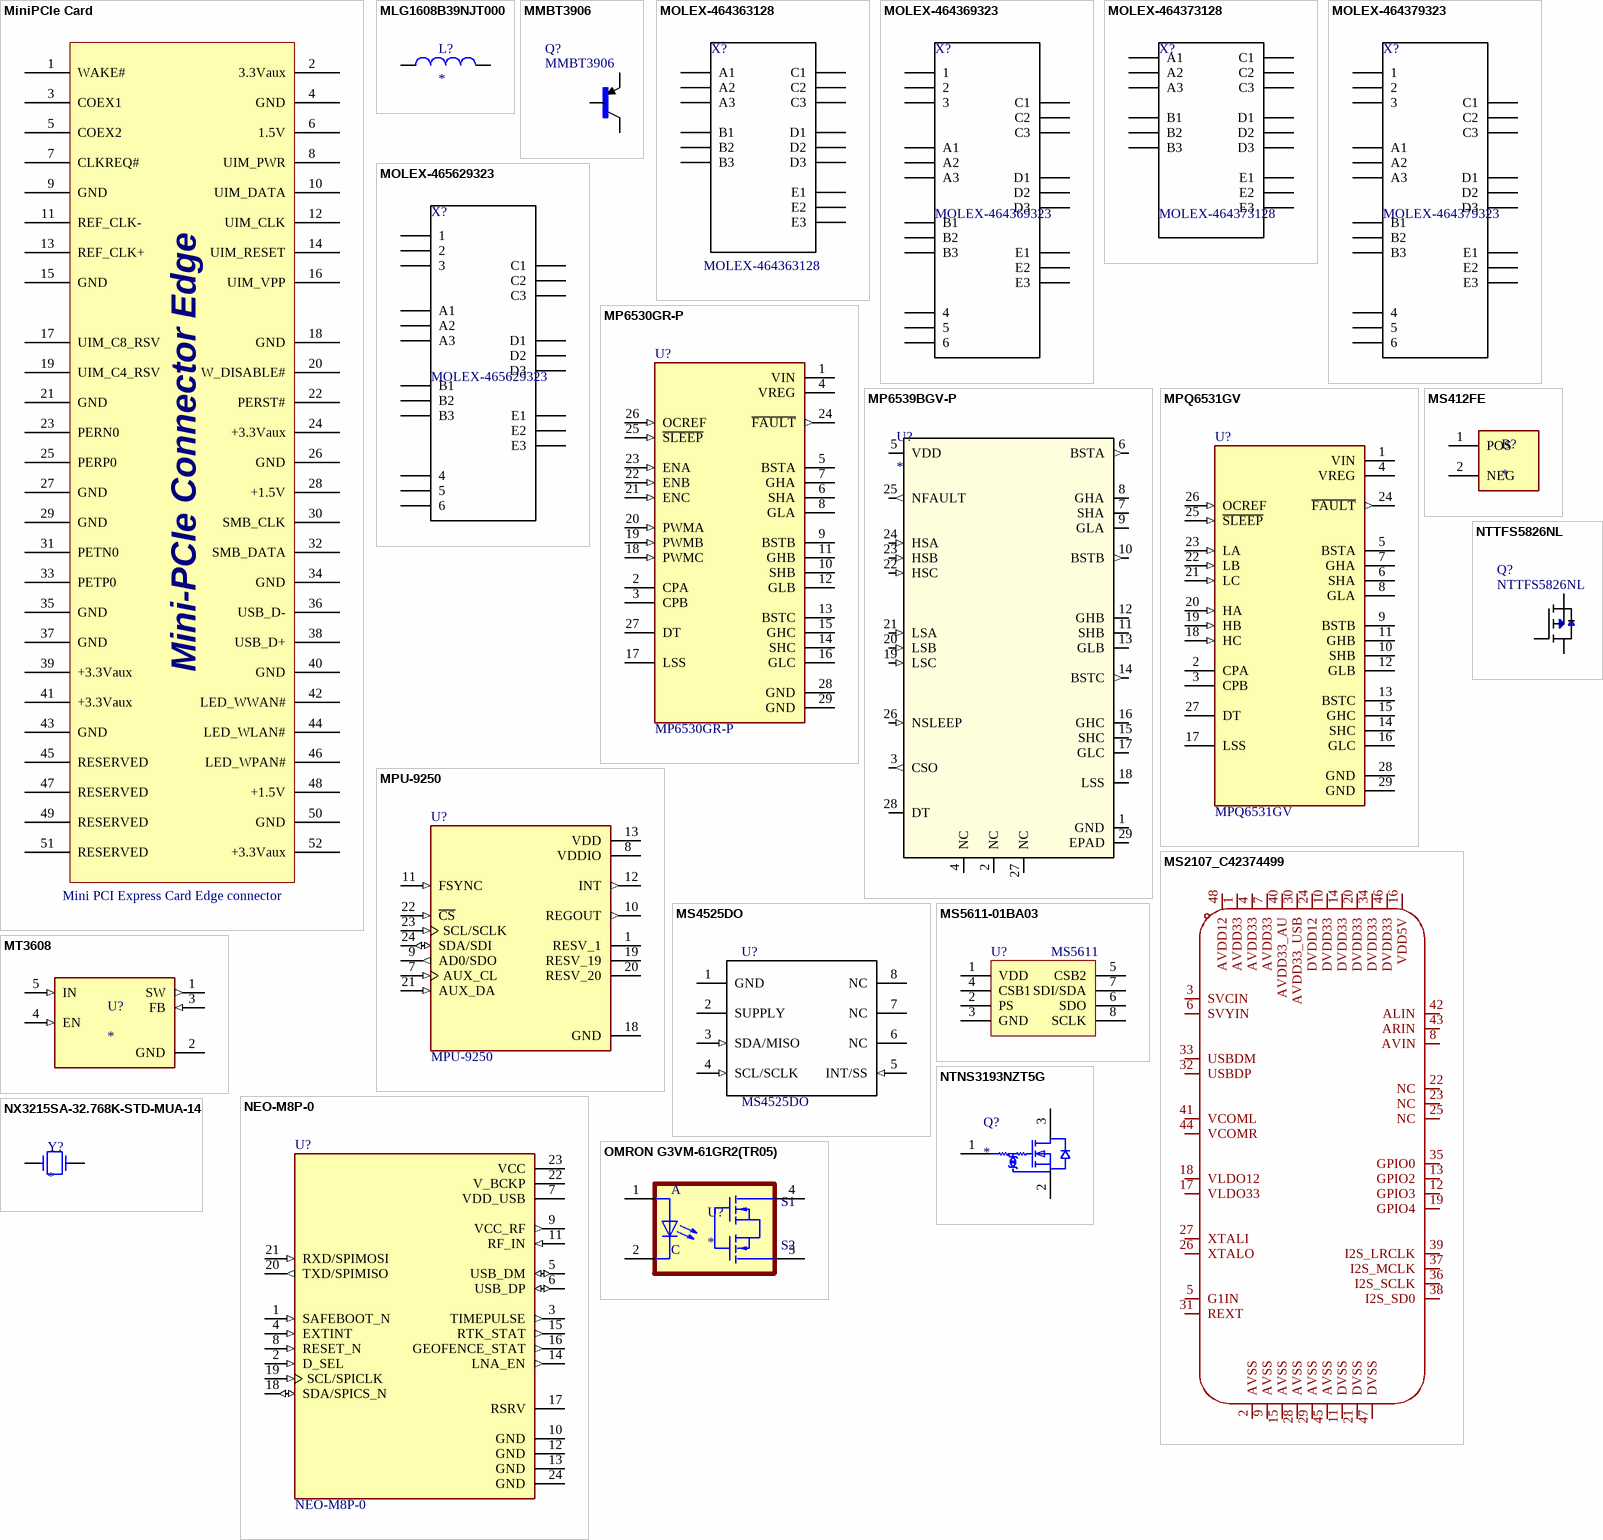
[diagram p9: symbols MiniPCIe Card to OMRON G3VM-61GR2(TR05)]

## MiniPCIe Card
designator CN?, comment Mini PCI Express Card Edge connector  (no BOM)
footprint Mini PCI Express
pins: 1 WAKE#, 2 3.3Vaux, 3 COEX1, 4 GND, 5 COEX2, 6 1.5V, 7 CLKREQ#, 8 UIM_PWR, 9 GND, 10 UIM_DATA, 11 REF_CLK-, 12 UIM_CLK, 13 REF_CLK+, 14 UIM_RESET, 15 GND, 16 UIM_VPP, 17 UIM_C8_RSV, 18 GND, 19 UIM_C4_RSV, 20 W_DISABLE#, 21 GND, 22 PERST#, 23 PERN0, 24 +3.3Vaux, 25 PERP0, 26 GND, 27 GND, 28 +1.5V, 29 GND, 30 SMB_CLK, 31 PETN0, 32 SMB_DATA, 33 PETP0, 34 GND, 35 GND, 36 USB_D-, 37 GND, 38 USB_D+, 39 +3.3Vaux, 40 GND, 41 +3.3Vaux, 42 LED_WWAN#, 43 GND, 44 LED_WLAN#, 45 RESERVED, 46 LED_WPAN#, 47 RESERVED, 48 +1.5V, 49 RESERVED, 50 GND, 51 RESERVED, 52 +3.3Vaux
text: Mini-PCIe Connector Edge

## MLG1608B39NJT000
designator L?
Fixed Inductors 39 NH 5%; MP: MLG1608B39NJT000; Package: None; Price: None; Value: *; Availability: Unavailable
footprint INDC1608X95N
pins: 1, 2

## MMBT3906
designator Q?
MMBT3906 Series 40 V 0.2 A 350 mW PNP General Purpose Amplifier - SOT-23; MF: STMicroelectronics; MP: MMBT3906; Package: SOT-23 ON Semiconductor; SnapEDA_Link: https://www.snapeda.com/parts/MMBT3906/STMicroelectronics/view-part/?ref=snap; Value: *
footprint *SOT23-3
pins: 1 B, 2 E, 3 C

## MOLEX-464363128
designator X?
EXTreme Ten60Power Right-Angle Receptacle with Side Guides, 15 Signal Circuits, Press Fit Tail; MF: Molex; System: Connector; MP: 464363128; Package: None; SnapEDA_Link: https://www.snapeda.com/parts/502494-0670/Molex/view-part/?ref=snap; Value: *; HelpURL: https://www.molex.com/en-us/products/part-detail/464363128
footprint MOLEX_464363128
pins: A1, A2, A3, B1, B2, B3, C1, C2, C3, D1, D2, D3, E1, E2, E3

## MOLEX-464369323
designator X?
EXTreme Ten60Power Right-Angle Receptacle with Side Guides, 3 DC Power Circuits, 15 Signal Circuits, 3 DC Power Circuits, Press Fit Tail; MF: Molex; System: Connector; MP: 464369323; Package: None; SnapEDA_Link: https://www.snapeda.com/parts/502494-0670/Molex/view-part/?ref=snap; Value: *; HelpURL: https://www.molex.com/content/dam/molex/molex-dot-com/products/automated/en-us/salesdrawingpdf/464/46436/464369323_sd.pdf?inline
footprint MOLEX_464369323
pins: 1, 2, 3, 4, 5, 6, A1, A2, A3, B1, B2, B3, C1, C2, C3, D1, D2, D3, E1, E2, E3

## MOLEX-464373128
designator X?
EXTreme Ten60Power Right-Angle Plug with Side Guides, 15 Signal Circuits, Press Fit Tail; MF: Molex; System: Connector; MP: 464373128; Package: None; SnapEDA_Link: https://www.snapeda.com/parts/502494-0670/Molex/view-part/?ref=snap; Value: *; HelpURL: https://www.molex.com/en-us/products/part-detail/464373128
footprint MOLEX_464373128
pins: A1, A2, A3, B1, B2, B3, C1, C2, C3, D1, D2, D3, E1, E2, E3

## MOLEX-464379323
designator X?
EXTreme Ten60Power Right-Angle Plug with Side Guides, 3 DC Power Circuits, 15 Signal Circuits, 3 DC Power Circuits, Press Fit Tail; MF: Molex; System: Connector; MP: 464379323; Package: None; SnapEDA_Link: https://www.snapeda.com/parts/502494-0670/Molex/view-part/?ref=snap; Value: *; HelpURL: https://www.molex.com/en-us/products/part-detail/464379323
footprint MOLEX_464379323
pins: 1, 2, 3, 4, 5, 6, A1, A2, A3, B1, B2, B3, C1, C2, C3, D1, D2, D3, E1, E2, E3

## MOLEX-465629323
designator X?
EXTreme Ten60Power Vertical Receptacle with Side Guides, 3 DC Power Circuits, 15 Signal Circuits, 3 DC Power Circuits, Press Fit Tail; MF: Molex; System: Connector; MP: 465629323; Package: None; SnapEDA_Link: https://www.snapeda.com/parts/502494-0670/Molex/view-part/?ref=snap; Value: *; HelpURL: https://www.molex.com/en-us/products/part-detail/465629323
footprint MOLEX_465629323
pins: 1, 2, 3, 4, 5, 6, A1, A2, A3, B1, B2, B3, C1, C2, C3, D1, D2, D3, E1, E2, E3

## MP6530GR-P
designator U?
5V to 60V, Three-Phase Brushless DC Motor Pre-Driver; MF: {'manufacturer': u'Monolithic Power'}; Value: *; Price: None; Package: None; Availability: Unavailable; MP: MP6530GR-P; HelpURL: https://eu.mouser.com/datasheet/2/277/MP6530-1384555.pdf
footprint QFN40P400X400X100-29N
pins: 1 VIN (power), 2 CPA, 3 CPB, 4 VREG (power), 5 BSTA, 6 SHA, 7 GHA, 8 GLA, 9 BSTB, 10 SHB, 11 GHB, 12 GLB, 13 BSTC, 14 SHC, 15 GHC, 16 GLC, 17 LSS, 18 PWMC (in), 19 PWMB (in), 20 PWMA (in), 21 ENC (in), 22 ENB (in), 23 ENA (in), 24 ~{FAULT} (out), 25 ~{SLEEP} (in), 26 OCREF (in), 27 DT, 28 GND (power), 29 GND (power)

## MP6539BGV-P
designator U?
No Description Available; Mfr_Name: Monolithic Power Systems; RefDes: RefDes; Type: Type; HelpURL: https://eu.mouser.com/datasheet/2/277/MP6539B-2946249.pdf
footprint QFN-4x5_MP6539B_MNP
pins: 1 GND (power), 2 NC, 3 CSO (out), 4 NC, 5 VDD (power), 6 BSTA (out), 7 SHA, 8 GHA, 9 GLA, 10 BSTB (out), 11 SHB, 12 GHB, 13 GLB, 14 BSTC (out), 15 SHC, 16 GHC, 17 GLC, 18 LSS, 19 LSC (in), 20 LSB (in), 21 LSA (in), 22 HSC (in), 23 HSB (in), 24 HSA (in), 25 NFAULT (out), 26 NSLEEP (in), 27 NC, 28 DT, 29 EPAD (power)

## MPQ6531GV
designator U?
5V to 60V, Three-Phase Brushless DC Motor Pre-Driver; MF: Monolithic Power; Value: *; Price: None; Package: None; Availability: Unavailable; MP: MPQ6531GV; HelpURL: https://www.monolithicpower.com/en/documentview/productdocument/index/version/2/document_type/Datasheet/lang/en/sku/MPQ6531-AEC1/document_id/5046/
footprint QFN-28
pins: 1 VIN (power), 2 CPA, 3 CPB, 4 VREG (power), 5 BSTA, 6 SHA, 7 GHA, 8 GLA, 9 BSTB, 10 SHB, 11 GHB, 12 GLB, 13 BSTC, 14 SHC, 15 GHC, 16 GLC, 17 LSS, 18 HC (in), 19 HB (in), 20 HA (in), 21 LC (in), 22 LB (in), 23 LA (in), 24 ~{FAULT} (out), 25 ~{SLEEP} (in), 26 OCREF (in), 27 DT, 28 GND (power), 29 GND (power)

## MPU-9250
designator U?
a 9-axis MotionTracking / device that combines a 3-axis gyroscope, 3-axis accelerometer, 3-axis magnetometer; MF: {'manufacturer': u'TDK InvenSense'}; Value: *; Package: None; MP: MPU-9250; HelpURL: https://invensense.tdk.com/wp-content/uploads/2015/02/PS-MPU-9250A-01-v1.1.pdf; ChipDip_Link: https://www.chipdip.ru/product/mpu-9250
footprint QFN40P300X300X105-24N
pins: 1 RESV_1, 7 AUX_CL (in), 8 VDDIO (power), 9 AD0/SDO (out), 10 REGOUT (out), 11 FSYNC (in), 12 INT (out), 13 VDD (power), 18 GND (power), 19 RESV_19, 20 RESV_20, 21 AUX_DA (in), 22 ~{CS} (in), 23 SCL/SCLK (in), 24 SDA/SDI (io)

## MS412FE
designator B?
BATTERY; MF: TE Connectivity; Package: None; Value: *; ChipDip_Link: https://aliexpress.ru/item/33052640858.html; HelpURL: https://www.sii.co.jp/en/me/datasheets/ms-rechargeable/ms412fe-5/
footprint MS412FE
pins: 1 POS, 2 NEG

## MS2107_C42374499
designator U??, comment MS2107  (value not drawn)
Symbol: MS2107_C42374499; MF: Macrosilicon(宏晶微); Device: MS2107_C42374499; LCSC Part Name: MS2107; Supplier Part: C42374499; MP: MS2107; Supplier Footprint: LQFP-48(7x7); JLCPCB Part Class: Extended Part; HelpURL: https://atta.szlcsc.com/upload/public/pdf/source/20241106/324BD733F5E03FEBC02A723D4CEC61AB.pdf
footprint LQFP-48_L7.0-W7.0-P0.50-LS9.0-BL_1
pins: 1 AVDD33, 2 AVSS, 3 SVCIN, 4 AVDD33, 5 G1IN, 6 SVYIN, 7 AVDD33, 8 AVIN, 9 AVSS, 10 DVDD33, 11 DVSS, 12 GPIO3, 13 GPIO2, 14 DVDD33, 15 AVSS, 16 VDD5V, 17 VLDO33, 18 VLDO12, 19 GPIO4, 20 DVDD33, 21 DVSS, 22 NC, 23 NC, 24 DVDD12, 25 NC, 26 XTALO, 27 XTALI, 28 AVSS, 29 AVSS, 30 AVDD33_USB, 31 REXT, 32 USBDP, 33 USBDM, 34 DVDD33, 35 GPIO0, 36 I2S_SCLK, 37 I2S_MCLK, 38 I2S_SD0, 39 I2S_LRCLK, 40 AVDD33_AU, 41 VCOML, 42 ALIN, 43 ARIN, 44 VCOMR, 45 AVSS, 46 DVDD33, 47 DVSS, 48 AVDD12

## MS4525DO
designator U?
SnapEDA_Link: https://www.snapeda.com/parts/4525-DS5A001DP/TE%20Connectivity%20Measurement%20Specialties/view-part/?ref=search&t=MS4525; MP: MS4525DO; Package: PowerSOIC-8 Texas Instruments; MF: MS4525DO; Value: *
footprint *TE_4525DO-DS5AI001DP
pins: 1 GND (power), 2 SUPPLY (power), 3 SDA/MISO (in), 4 SCL/SCLK (in), 5 INT/SS (in), 6 NC (power), 7 NC (power), 8 NC (power)

## MS5611-01BA03
designator U?, comment MS5611
Barometric Pressure Sensor,  10 to 1200 mbar, -40 to +85 °C; HelpURL: https://www.te.com/commerce/DocumentDelivery/DDEController?Action=showdoc&DocId=Data+Sheet%7FMS5611-01BA03%7FB3%7Fpdf%7FEnglish%7FENG_DS_MS5611-01BA03_B3.pdf%7FCAT-BLPS0036; MP: MS5611
footprint MS5611
pins: 1 VDD (power), 2 PS, 3 GND (power), 4 CSB1, 5 CSB2, 6 SDO, 7 SDI/SDA, 8 SCLK

## MT3608
designator U?
High Efficiency 1.2MHz2A Step Up Converter; MP: MT3608; MF: Aerosemi Technology Co., Ltd; Price: None; Availability: Not in stock; Package: Package; Value: *; SnapEDA_Link: https://www.snapeda.com/parts/MT3608/Aerosemi+Technology+Co.%252C+Ltd/view-part/?ref=snap; Check_prices: https://www.snapeda.com/parts/MT3608/Aerosemi+Technology+Co.%252C+Ltd/view-part/?ref=eda; HelpURL: https://www.olimex.com/Products/Breadboarding/BB-PWR-3608/resources/MT3608.pdf
footprint SOT95P280X145-6N
pins: 1 SW (out), 2 GND (power), 3 FB (in), 4 EN (in), 5 IN (in)

## NEO-M8P-0
designator U?
NEO-M8P RF Receiver BeiDou, GLONASS, GNSS, GPS 1.575GHz -160dBm; MF: U-Blox America; Instructions: Do not install; MP: NEO-M8P-0; SnapEDA_Link: https://www.snapeda.com/parts/NEO-M8P-0/U-Blox%20America%20Inc./view-part/562093/?ref=snap; Value: *; Package: SMD-24 u-blox; HelpURL: https://www.u-blox.com/sites/default/files/NEO-M8P_DataSheet_%28UBX-15016656%29.pdf; ChipDip_Link: https://www.chipdip.ru/product1/8001778197; Type: SMD
footprint MODULE_NEO-M8P-0
pins: 1 SAFEBOOT_N (in), 2 D_SEL (in), 3 TIMEPULSE (out), 4 EXTINT (in), 5 USB_DM (io), 6 USB_DP (io), 7 VDD_USB (power), 8 RESET_N (in), 9 VCC_RF (out), 10 GND (power), 11 RF_IN (in), 12 GND (power), 13 GND (power), 14 LNA_EN (out), 15 RTK_STAT (out), 16 GEOFENCE_STAT (out), 17 RSRV, 18 SDA/SPICS_N (io), 19 SCL/SPICLK (in), 20 TXD/SPIMISO (out), 21 RXD/SPIMOSI (in), 22 V_BCKP (power), 23 VCC (power), 24 GND (power)

## NTNS3193NZT5G
designator Q?
N-Channel 20V 224mA (Ta) 120mW (Ta) Surface Mount 3-XLLGA (0.62x0.62); MF: ON Semiconductor; MP: NTNS3193NZT5G; Price: None; Check_prices: https://www.snapeda.com/parts/NTNS3193NZT5G/ON%20Semiconductor/view-part/825107/?ref=eda; SnapEDA_Link: https://www.snapeda.com/parts/NTNS3193NZT5G/ON%20Semiconductor/view-part/825107/?ref=snap; Package: XFLGA-3 ON Semiconductor; Availability: Unavailable; Value: *
footprint ONSC-XLLGA-3-713AB_V
pins: 1 G, 2 S, 3 D

## NTTFS5826NL
designator Q?
NTTFS5826NLTAG, MOSFET N-CHANNEL 60V 20A 24MOHM WDFN8; SnapEDA_Link: https://www.snapeda.com/parts/NVTFS5124PLTAG/ON%20Semiconductor/view-part/?ref=search&t=NVTFS5124PLTAG; Value: *; ChipDip_Link: https://www.chipdip.ru/product/nttfs5826nltag-mosfet-n-channel-60v-20a; HelpURL: http://www.farnell.com/datasheets/2028673.pdf
footprint *TRANS_NVTFS015N04CTAG
pins: D, G, S

## NX3215SA-32.768K-STD-MUA-14
designator Y?
32.768kHz Â±20ppm Crystal 6pF 70 kOhms 2-SMD, No Lead; MP: NX3215SA-32.768K-STD-MUA-14; MF: NDK America,; Package: SMD-2 NDK; SnapEDA_Link: https://www.snapeda.com/parts/NX3215SA-32.768K-STD-MUA-14/NDK%20America,%20Inc./view-part/560449/?ref=snap; Value: *; ChipDip_Link: https://www.chipdip.ru/product0/9000523964
footprint XTAL_NX3215SA-32.768K-STD-MUA-14
pins: 1, 2

## OMRON G3VM-61GR2(TR05)
designator U?
Solid State SPST-NO (1 Form A) 4-SOP (0.173, 4.40mm); MF: OMRON; MP: G3VM-61GR2(TR05); SnapEDA_Link: https://www.snapeda.com/parts/LH1546AEFTR/Vishay+Semiconductor+Opto+Division/view-part/?ref=snap; Package: None; Value: *; Check_prices: https://www.snapeda.com/parts/LH1546AEFTR/Vishay+Semiconductor+Opto+Division/view-part/?ref=eda; HelpURL: https://www.lcsc.com/product-detail/C2653911.html?s_z=s_Relays%257CSolid%2520State%2520Relays%2520%28SSR%29
footprint SOIC254P695X242-4N
pins: 1 A, 2 C, 3 S2, 4 S1

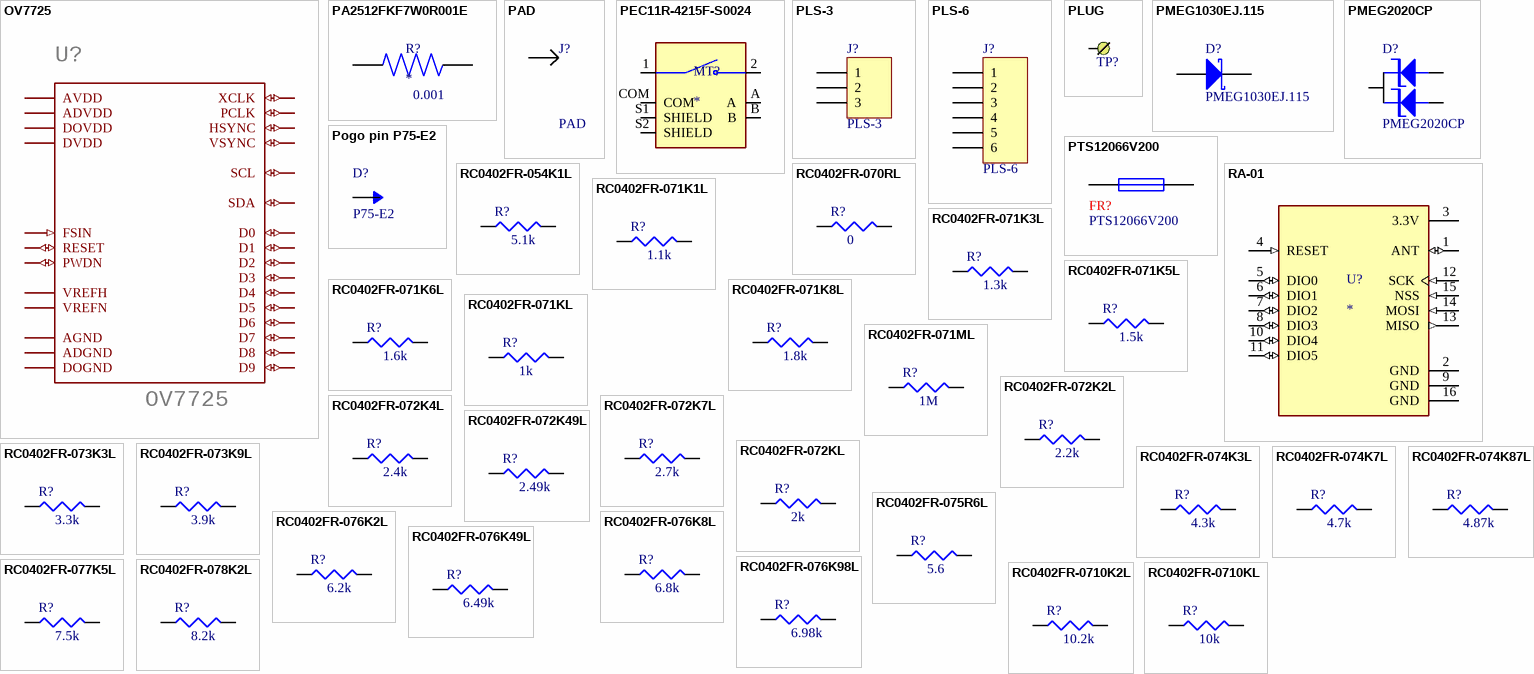
[diagram p10: symbols OV7725 to RC0402FR-0710KL]

## OV7725
designator U?
MF: OmniVision; HelpURL: https://cdn.sparkfun.com/datasheets/Sensors/LightImaging/OV7725.pdf; MP: OV7725; Package: CSP2-28
footprint CSP2-28
pins: A1 ADVDD (power), A2 RESET (io), A3 VREFH (power), A4 FSIN (in), A5 SCL (io), A6 D0 (io), B1 ADGND (power), B2 VREFN (power), B3 AVDD (power), B4 AGND (power), B5 SDA (io), B6 HSYNC (io), C1 PWDN (io), C6 VSYNC (io), D1 D5 (io), D6 D4 (io), E1 D7 (io), E2 D1 (io), E3 DVDD (power), E4 PCLK (io), E5 DOVDD (power), E6 D6 (io), F1 D9 (io), F2 D3 (io), F3 XCLK (io), F4 DOGND (power), F5 D2 (io), F6 D8 (io)

## PA2512FKF7W0R001E
designator R?  value 0.001
1 mOhms ±1% 2W Chip Resistor 2512 (6332 Metric) Automotive AEC-Q200, Current Sense, Moisture Resistant Metal Element; MF: Yageo; MP: PA2512FKF7W0R001E; SnapEDA_Link: https://www.snapeda.com/parts/PA2512FKF7W0R001E/Yageo/view-part/?ref=snap; Package: 6331 Yageo; Check_prices: https://www.snapeda.com/parts/PA2512FKF7W0R001E/Yageo/view-part/?ref=eda; HelpURL: https://www.chipdip.ru/product/pa2512fkf7w0r001e-chip-2512-0.001-1-2w-100ppm-c-yageo-8023379312
footprint RESC6331X88N
pins: 1, 2

## PAD
designator J?
Header 1; System: Connector; MF: Connfly electronic (Zhenqin); MP: PLS-3 (DS1021-1x3); Type: SMD; ChipDip_Link: https://www.chipdip.ru/product/pls-3; HelpURL: https://static.chipdip.ru/lib/227/DOC000227157.pdf
footprint PAD
pins: 1

## PEC11R-4215F-S0024
designator MT?
Incremental Encoder, 12 Mm, Contact Rating 10 Ma - 5 Vdc; MP: PEC11R-4215F-S0024; Package: None; Availability: Unavailable; Value: *; Price: None
footprint XDCR_PEC11R-4215F-S0024
pins: 1, 2, A, B, COM, S1 SHIELD, S2 SHIELD

## PLS-3
designator J?
Header, 3-Pin; System: Connector; MF: Connfly electronic (Zhenqin); MP: PLS-3 (DS1021-1x3); Type: SMD; ChipDip_Link: https://www.chipdip.ru/product/pls-3; HelpURL: https://static.chipdip.ru/lib/227/DOC000227157.pdf
footprint HDR Side 3 pin
pins: 1, 2, 3

## PLS-6
designator J?
PLS-6 (DS1021-1x6), Вилка штыревая 2.54мм 1x6 прямая тип1; Instructions: DNP; ChipDip_Link: https://www.chipdip.ru/product/pls-6; MP: PLS-6; Type: SMD
signal-integrity model Connector
footprint HDR Side 6 pin
footprint 6pin 1.5pitch
pins: 1, 2, 3, 4, 5, 6

## PLUG
designator TP?, comment Test Point  (value not drawn)
footprint PAD1
pins: 1

## PMEG1030EJ.115
designator D?
Диод выпрямительный Шоттки, SMD, 10В, 3А, SOD323F, Ufmax 390мВ; ChipDip_Link: https://www.chipdip.ru/product0/8002570070; HelpURL: https://static.chipdip.ru/lib/977/DOC011977217.pdf
footprint sod323f
simulation model SKYDIODE (Diode)
signal-integrity model D Schottky
pins: 1 A, 2 K

## PMEG2020CP
designator D?
Выпрямитель Шоттки, AEC-Q101, 2 А, Двойной Общий Катод, SOT-1061, 3 вывод(-ов), 420 мВ; ChipDip_Link: https://www.chipdip.ru/product0/9000783708; HelpURL: https://static.chipdip.ru/lib/607/DOC011607761.pdf
footprint pmeg2020cp
pins: 1, 2, 3

## Pogo pin P75-E2
designator D?, comment P75-E2
Pogo pin P75-E2
footprint P75-E2
pins: 1

## PTS12066V200
designator FR?
Resettable Fuse, PPTC, 1206 (3216 Metric), PolyTron PTS1206 Series, 6 В DC, 2 А, 3.5 А, 1.5 с; ChipDip_Link: https://www.chipdip.ru/product/pts12066v200; HelpURL: https://static.chipdip.ru/lib/851/DOC011851120.pdf
footprint 1206A
simulation model FUSE (Spice Subcircuit)
pins: 1, 2

## RA-01
designator U?
Ai-Thinker Lora Series Module; MP: RA-01; SnapEDA_Link: https://www.snapeda.com/parts/RA-01H/AI-Thinker/view-part/?ref=snap; MF: AI-Thinker; Check_prices: https://www.snapeda.com/parts/RA-01H/AI-Thinker/view-part/?ref=eda; Value: *; Availability: Not in stock; Price: None; Package: Package
footprint XCVR_RA-01H
pins: 1 ANT (io), 2 GND (power), 3 3.3V (power), 4 RESET (in), 5 DIO0 (io), 6 DIO1 (io), 7 DIO2 (io), 8 DIO3 (io), 9 GND (power), 10 DIO4 (io), 11 DIO5 (io), 12 SCK (in), 13 MISO (out), 14 MOSI (in), 15 NSS (in), 16 GND (power)

## RC0402FR-054K1L
designator R?, comment value 5.1k  (hidden comment: RC0402FR-075K1L)
0.062Вт 0402 5.1 кОм, 1%, Чип резистор (SMD); MF: Yageo or NXP; ChipDip_Link: https://www.chipdip.ru/product0/9000189640; HelpURL: https://www.chipdip.ru/product0/9000189640; Package: RC0402; Type: SMD; MP: RC0402FR-075K1L; SnapEDA_Link: https://www.snapeda.com/parts/CRGCQ0402F10K/TE%20Connectivity/view-part/3186991/?ref=search&t=0402%2010k
footprint RESC1005X40N
pins: 1, 2

## RC0402FR-070RL
designator R?  value 0  (hidden comment: RC0402FR-070RL)
0.062Вт 0402 0 Ом, 1%, Чип резистор (SMD); MF: Yageo or NXP; ChipDip_Link: https://www.chipdip.ru/product0/9000189640; HelpURL: https://www.chipdip.ru/product0/9000189640; Package: RC0402; Type: SMD; MP: RC0402FR-070RL; SnapEDA_Link: https://www.snapeda.com/parts/CRGCQ0402F10K/TE%20Connectivity/view-part/3186991/?ref=search&t=0402%2010k
footprint RESC1005X40N
pins: 1, 2

## RC0402FR-071K1L
designator R?  value 1.1k  (hidden comment: RC0402FR-071K1L)
0.062Вт 0402 1.1 кОм, 1%, Чип резистор (SMD); MF: Yageo or NXP; ChipDip_Link: https://www.chipdip.ru/product0/9000189640; HelpURL: https://www.chipdip.ru/product0/9000189640; Package: RC0402; Type: SMD; MP: RC0402FR-071K1L; SnapEDA_Link: https://www.snapeda.com/parts/CRGCQ0402F10K/TE%20Connectivity/view-part/3186991/?ref=search&t=0402%2010k
footprint RESC1005X40N
pins: 1, 2

## RC0402FR-071K3L
designator R?  value 1.3k  (hidden comment: RC0402FR-071K3L)
0.062Вт 0402 1.3 кОм, 1%, Чип резистор (SMD); MF: Yageo or NXP; ChipDip_Link: https://www.chipdip.ru/product0/9000189640; HelpURL: https://www.chipdip.ru/product0/9000189640; Package: RC0402; Type: SMD; MP: RC0402FR-071K3L; SnapEDA_Link: https://www.snapeda.com/parts/CRGCQ0402F10K/TE%20Connectivity/view-part/3186991/?ref=search&t=0402%2010k
footprint RESC1005X40N
pins: 1, 2

## RC0402FR-071K5L
designator R?  value 1.5k  (hidden comment: RC0402FR-071K5L)
0.062Вт 0402 1.5 кОм, 1%, Чип резистор (SMD); MF: Yageo or NXP; ChipDip_Link: https://www.chipdip.ru/product0/9000189640; HelpURL: https://www.chipdip.ru/product0/9000189640; Package: RC0402; Type: SMD; MP: RC0402FR-071K5L; SnapEDA_Link: https://www.snapeda.com/parts/CRGCQ0402F10K/TE%20Connectivity/view-part/3186991/?ref=search&t=0402%2010k
footprint RESC1005X40N
pins: 1, 2

## RC0402FR-071K6L
designator R?  value 1.6k  (hidden comment: RC0402FR-071K6L)
0.062Вт 0402 1.6 кОм, 1%, Чип резистор (SMD); MF: Yageo or NXP; ChipDip_Link: https://www.chipdip.ru/product0/9000189640; HelpURL: https://www.chipdip.ru/product0/9000189640; Package: RC0402; Type: SMD; MP: RC0402FR-071K6L; SnapEDA_Link: https://www.snapeda.com/parts/CRGCQ0402F10K/TE%20Connectivity/view-part/3186991/?ref=search&t=0402%2010k
footprint RESC1005X40N
pins: 1, 2

## RC0402FR-071K8L
designator R?  value 1.8k  (hidden comment: RC0402FR-071K8L)
0.062Вт 0402 1.8 кОм, 1%, Чип резистор (SMD); MF: Yageo or NXP; ChipDip_Link: https://www.chipdip.ru/product0/9000189640; HelpURL: https://www.chipdip.ru/product0/9000189640; Package: RC0402; Type: SMD; MP: RC0402FR-071K8L; SnapEDA_Link: https://www.snapeda.com/parts/CRGCQ0402F10K/TE%20Connectivity/view-part/3186991/?ref=search&t=0402%2010k
footprint RESC1005X40N
pins: 1, 2

## RC0402FR-071KL
designator R?  value 1k  (hidden comment: RC0402FR-071KL)
0.062Вт 0402 1 кОм, 1%, Чип резистор (SMD); MF: Yageo or NXP; ChipDip_Link: https://www.chipdip.ru/product0/9000189640; HelpURL: https://www.chipdip.ru/product0/9000189640; Package: RC0402; Type: SMD; MP: RC0402FR-071KL; SnapEDA_Link: https://www.snapeda.com/parts/CRGCQ0402F10K/TE%20Connectivity/view-part/3186991/?ref=search&t=0402%2010k
footprint RESC1005X40N
pins: 1, 2

## RC0402FR-071ML
designator R?  value 1M  (hidden comment: RC0402FR-071ML)
0.062Вт 0402 1 MОм, 1%, Чип резистор (SMD); MF: Yageo or NXP; ChipDip_Link: https://www.chipdip.ru/product0/9000189640; HelpURL: https://www.chipdip.ru/product0/9000189640; Package: RC0402; Type: SMD; MP: RC0402FR-071ML; SnapEDA_Link: https://www.snapeda.com/parts/CRGCQ0402F10K/TE%20Connectivity/view-part/3186991/?ref=search&t=0402%2010k
footprint RESC1005X40N
pins: 1, 2

## RC0402FR-072K2L
designator R?  value 2.2k  (hidden comment: RC0402FR-072K2L)
0.062Вт 0402 2.2 кОм, 1%, Чип резистор (SMD); MF: Yageo or NXP; ChipDip_Link: https://www.chipdip.ru/product0/9000189640; HelpURL: https://www.chipdip.ru/product0/9000189640; Package: RC0402; Type: SMD; MP: RC0402FR-072K2L; SnapEDA_Link: https://www.snapeda.com/parts/CRGCQ0402F10K/TE%20Connectivity/view-part/3186991/?ref=search&t=0402%2010k
footprint RESC1005X40N
pins: 1, 2

## RC0402FR-072K4L
designator R?  value 2.4k  (hidden comment: RC0402FR-072K4L)
0.062Вт 0402 2.4 кОм, 1%, Чип резистор (SMD); MF: Yageo or NXP; ChipDip_Link: https://www.chipdip.ru/product0/9000189640; HelpURL: https://www.chipdip.ru/product0/9000189640; Package: RC0402; Type: SMD; MP: RC0402FR-072K4L; SnapEDA_Link: https://www.snapeda.com/parts/CRGCQ0402F10K/TE%20Connectivity/view-part/3186991/?ref=search&t=0402%2010k
footprint RESC1005X40N
pins: 1, 2

## RC0402FR-072K7L
designator R?  value 2.7k  (hidden comment: RC0402FR-072K7L)
0.062Вт 0402 2.7 кОм, 1%, Чип резистор (SMD); MF: Yageo or NXP; ChipDip_Link: https://www.chipdip.ru/product0/9000189640; HelpURL: https://www.chipdip.ru/product0/9000189640; Package: RC0402; Type: SMD; MP: RC0402FR-072K7L; SnapEDA_Link: https://www.snapeda.com/parts/CRGCQ0402F10K/TE%20Connectivity/view-part/3186991/?ref=search&t=0402%2010k
footprint RESC1005X40N
pins: 1, 2

## RC0402FR-072K49L
designator R?  value 2.49k  (hidden comment: RC0402FR-072K49L)
0.062W 0402 2.49 kOhm, 1%,  (SMD); MF: Yageo or NXP; ChipDip_Link: https://www.chipdip.ru/product0/9000189640; HelpURL: https://nl.mouser.com/datasheet/2/447/PYu_RC_Group_51_RoHS_L_11-1984063.pdf; Package: RC0402; Type: SMD; MP: RC0402FR-072K49L; SnapEDA_Link: https://www.snapeda.com/parts/CRGCQ0402F10K/TE%20Connectivity/view-part/3186991/?ref=search&t=0402%2010k
footprint RESC1005X40N
pins: 1, 2

## RC0402FR-072KL
designator R?  value 2k  (hidden comment: RC0402FR-072KL)
0.062Вт 0402 2 кОм, 1%, Чип резистор (SMD); MF: Yageo or NXP; ChipDip_Link: https://www.chipdip.ru/product0/9000189640; HelpURL: https://www.chipdip.ru/product0/9000189640; Package: RC0402; Type: SMD; MP: RC0402FR-072KL; SnapEDA_Link: https://www.snapeda.com/parts/CRGCQ0402F10K/TE%20Connectivity/view-part/3186991/?ref=search&t=0402%2010k
footprint RESC1005X40N
pins: 1, 2

## RC0402FR-073K3L
designator R?  value 3.3k  (hidden comment: RC0402FR-073K3L)
0.062Вт 0402 3.3 кОм, 1%, Чип резистор (SMD); MF: Yageo or NXP; ChipDip_Link: https://www.chipdip.ru/product0/9000189640; HelpURL: https://www.chipdip.ru/product0/9000189640; Package: RC0402; Type: SMD; MP: RC0402FR-073K3L; SnapEDA_Link: https://www.snapeda.com/parts/CRGCQ0402F10K/TE%20Connectivity/view-part/3186991/?ref=search&t=0402%2010k
footprint RESC1005X40N
pins: 1, 2

## RC0402FR-073K9L
designator R?  value 3.9k  (hidden comment: RC0402FR-073K9L)
0.062Вт 0402 3.9 кОм, 1%, Чип резистор (SMD); MF: Yageo or NXP; ChipDip_Link: https://www.chipdip.ru/product0/9000189640; HelpURL: https://www.chipdip.ru/product0/9000189640; Package: RC0402; Type: SMD; MP: RC0402FR-073K9L; SnapEDA_Link: https://www.snapeda.com/parts/CRGCQ0402F10K/TE%20Connectivity/view-part/3186991/?ref=search&t=0402%2010k
footprint RESC1005X40N
pins: 1, 2

## RC0402FR-074K3L
designator R?  value 4.3k  (hidden comment: RC0402FR-074K3L)
0.062Вт 0402 4.3 кОм, 1%, Чип резистор (SMD); MF: Yageo or NXP; ChipDip_Link: https://www.chipdip.ru/product0/9000189640; HelpURL: https://www.chipdip.ru/product0/9000189640; Package: RC0402; Type: SMD; MP: RC0402FR-074K3L; SnapEDA_Link: https://www.snapeda.com/parts/CRGCQ0402F10K/TE%20Connectivity/view-part/3186991/?ref=search&t=0402%2010k
footprint RESC1005X40N
pins: 1, 2